# EAGLE library part OPA300-ND (library Ampparts)
The OPA300 and OPA301 series high-speed, voltage-feedback, CMOS operational amplifiers are designed for 16-bit resolution systems. The OPA300/OPA301 series are unity-gain stable and feature excellent settling and harmonic distortion specifications. Low power applications benefit from low quiescent current. The OPA300 and OPA2300 feature a digital shutdown (Enable) function to provide additional power savings during idle periods. Optimized for single-supply operation, the OPA300/OPA301 series offer superior output swing and excellent common-mode range. The OPA300 and OPA301 series op amps have 150MHz of unity-gain bandwidth, low 3nV/√Hz voltage noise, and 0.1% settling within 30ns. Single-supply operation from 2.7V (±1.35V) to 5.5V (±2.75V) and an available shutdown function that reduces supply current to 5µA are useful for portable low-power applications. The OPA300 and OPA301 are available in SO-8 and SOT-23 packages. The OPA2300 is available in MSOP-10, and the OPA2301 is available in SO-8 and MSOP-8. All versions are specified over the industrial temperature range of −40°C to +125°C.
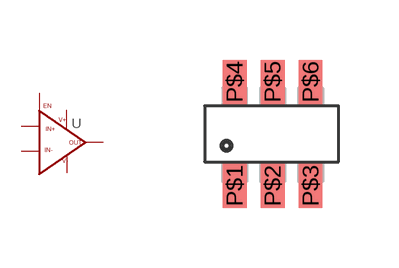
[diagram p0: symbol with the pads of SOT23-6; footprint SOT23-6]

Designator prefix -

## OPA300-ND  [SOT23-6]
P$1  OUT
P$2  V-
P$3  IN+
P$4  IN-
P$5  EN
P$6  V+

## Footprint SOT23-6 (pad centres in mm)
smd 0.6 x 1.1: P$1 0,0; P$2 0.95,0; P$3 1.9,0; P$4 0,2.6; P$5 0.95,2.6; P$6 1.9,2.6